# Altium schematic symbol library PilotMap2.SchLib: 9 symbols
Pins are listed as number, name and electrical type; pins without a type are passive.

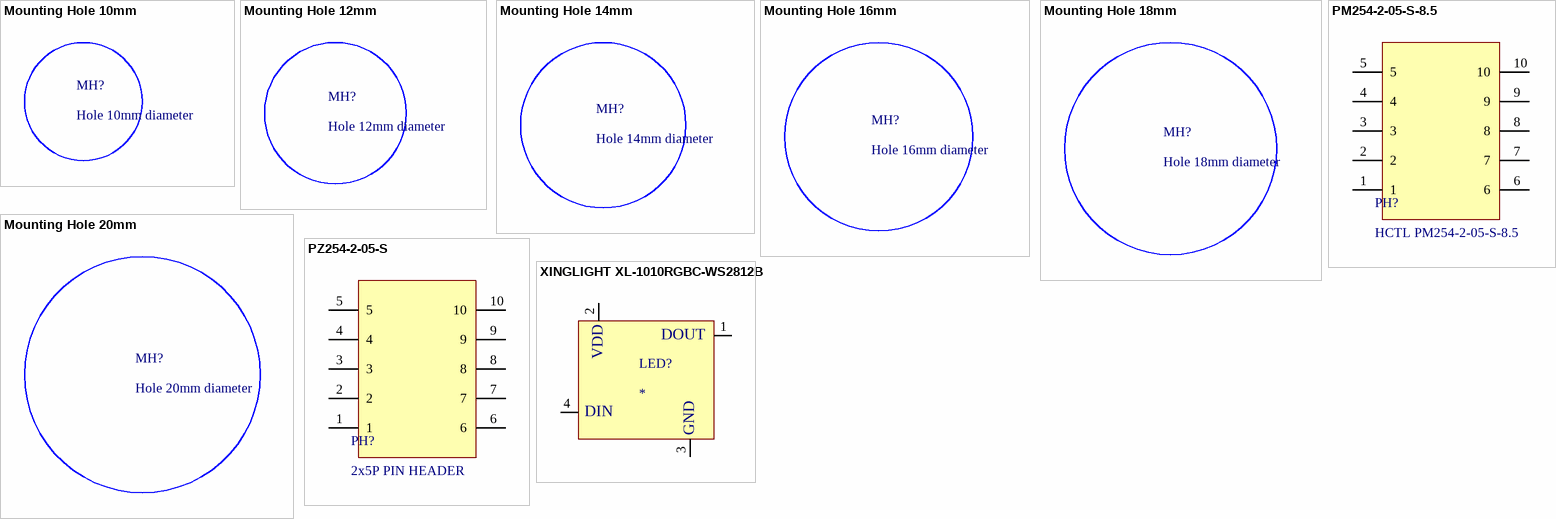
[diagram p0: symbols Mounting Hole 10mm to XINGLIGHT XL-1010RGBC-WS2812B]

## Mounting Hole 10mm
designator MH?, comment Hole 10mm diameter
Hole for mounting
footprint Mounting Hole 10mm

## Mounting Hole 12mm
designator MH?, comment Hole 12mm diameter
Hole for mounting
footprint Mounting Hole 12mm

## Mounting Hole 14mm
designator MH?, comment Hole 14mm diameter
Hole for mounting
footprint Mounting Hole 14mm

## Mounting Hole 16mm
designator MH?, comment Hole 16mm diameter
Hole for mounting
footprint Mounting Hole 16mm

## Mounting Hole 18mm
designator MH?, comment Hole 18mm diameter
Hole for mounting
footprint Mounting Hole 18mm

## Mounting Hole 20mm
designator MH?, comment Hole 20mm diameter
Hole for mounting
footprint Mounting Hole 20mm

## PM254-2-05-S-8.5
designator PH?, comment HCTL PM254-2-05-S-8.5
2.54mm 2.54mm 260℃@5S 3A -40℃~+105℃ Copper Alloy 10P Brick nogging 2x5P Top 8.5mm Square Hole SMD,P=2.54mm Female Headers ROHS; ComponentLink1Description: New link; ComponentLink1URL: https://www.lcsc.com/product-detail/Female-Headers_HCTL-PM254-2-05-S-8-5_C3975150.html
footprint PM254-2-05-S-8.5
pins: 1, 2, 3, 4, 5, 6, 7, 8, 9, 10

## PZ254-2-05-S
designator PH?, comment 2x5P PIN HEADER
250V 3A Brick nogging Square Pins 2.5mm 260℃@5S 6mm 10P -40℃~+105℃ 2.54mm Black 2.54mm 2x5P SMD,P=2.54mm Pin Headers ROHS; ComponentLink1Description: New link; ComponentLink1URL: https://www.lcsc.com/product-detail/Pin-Headers_HCTL-PZ254-2-05-S_C3294463.html
footprint PZ254-2-05-S
pins: 1, 2, 3, 4, 5, 6, 7, 8, 9, 10

## XINGLIGHT XL-1010RGBC-WS2812B
designator LED?
footprint XINGLIGHT XL-1010RGBC-WS2812B
pins: 1 7, 2, 3, 4
text: DOUT; VDD; DIN; GND